# Altium footprint library SON50P200X300X80-13N-D.PcbLib: 1 footprints
Each footprint in its own frame and in the unit in brackets; x right, y up, seen from the top. Pads: shape width x height; smd on the part's side, far side on the other; paste and mask are expansions set on the pad; w line width, h text height; cw(c..) or ccw(c..) is an arc to the next point about the centre after c.
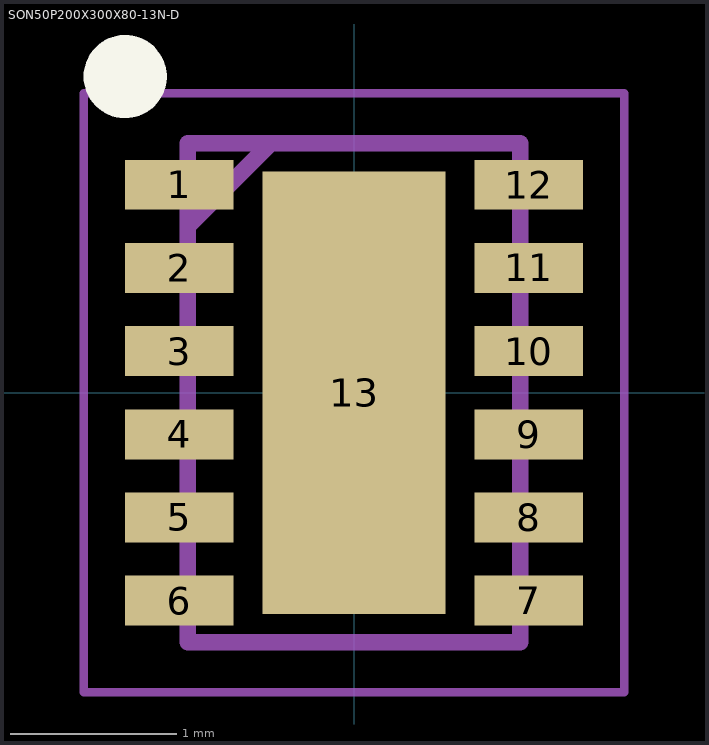
[diagram p0: the footprint, top view; thin cyan lines are the x and y axes]

## SON50P200X300X80-13N-D [mm]
pads (13):
  rect 0.65x0.3 smd: 1(-1.05,1.25) 2(-1.05,0.75) 3(-1.05,0.25) 4(-1.05,-0.25) 5(-1.05,-0.75) 6(-1.05,-1.25) 7(1.05,-1.25) 8(1.05,-0.75) 9(1.05,-0.25) 10(1.05,0.25) 11(1.05,0.75) 12(1.05,1.25)
  rect 1.1x2.66 smd: 13(0,0)
Top Overlay:
  circle w0.25: c-1.375,1.9 r0.125
Mechanical 15:
  lines w0.1: -1,1 -0.5,1.5 ; -1,-1.5 1,-1.5 1,1.5 -1,1.5 -1,-1.5
Mechanical 20:
  lines w0.05: -1.625,-1.8 1.625,-1.8 1.625,1.8 -1.625,1.8 -1.625,-1.8